# Altium footprint library PCB_Reflow_Plate_PcbLib.PcbLib: 21 footprints (part 1 of 2)
Each footprint in its own frame and in the unit in brackets; x right, y up, seen from the top. Pads: shape width x height; smd on the part's side, far side on the other; paste and mask are expansions set on the pad; w line width, h text height; cw(c..) or ccw(c..) is an arc to the next point about the centre after c.
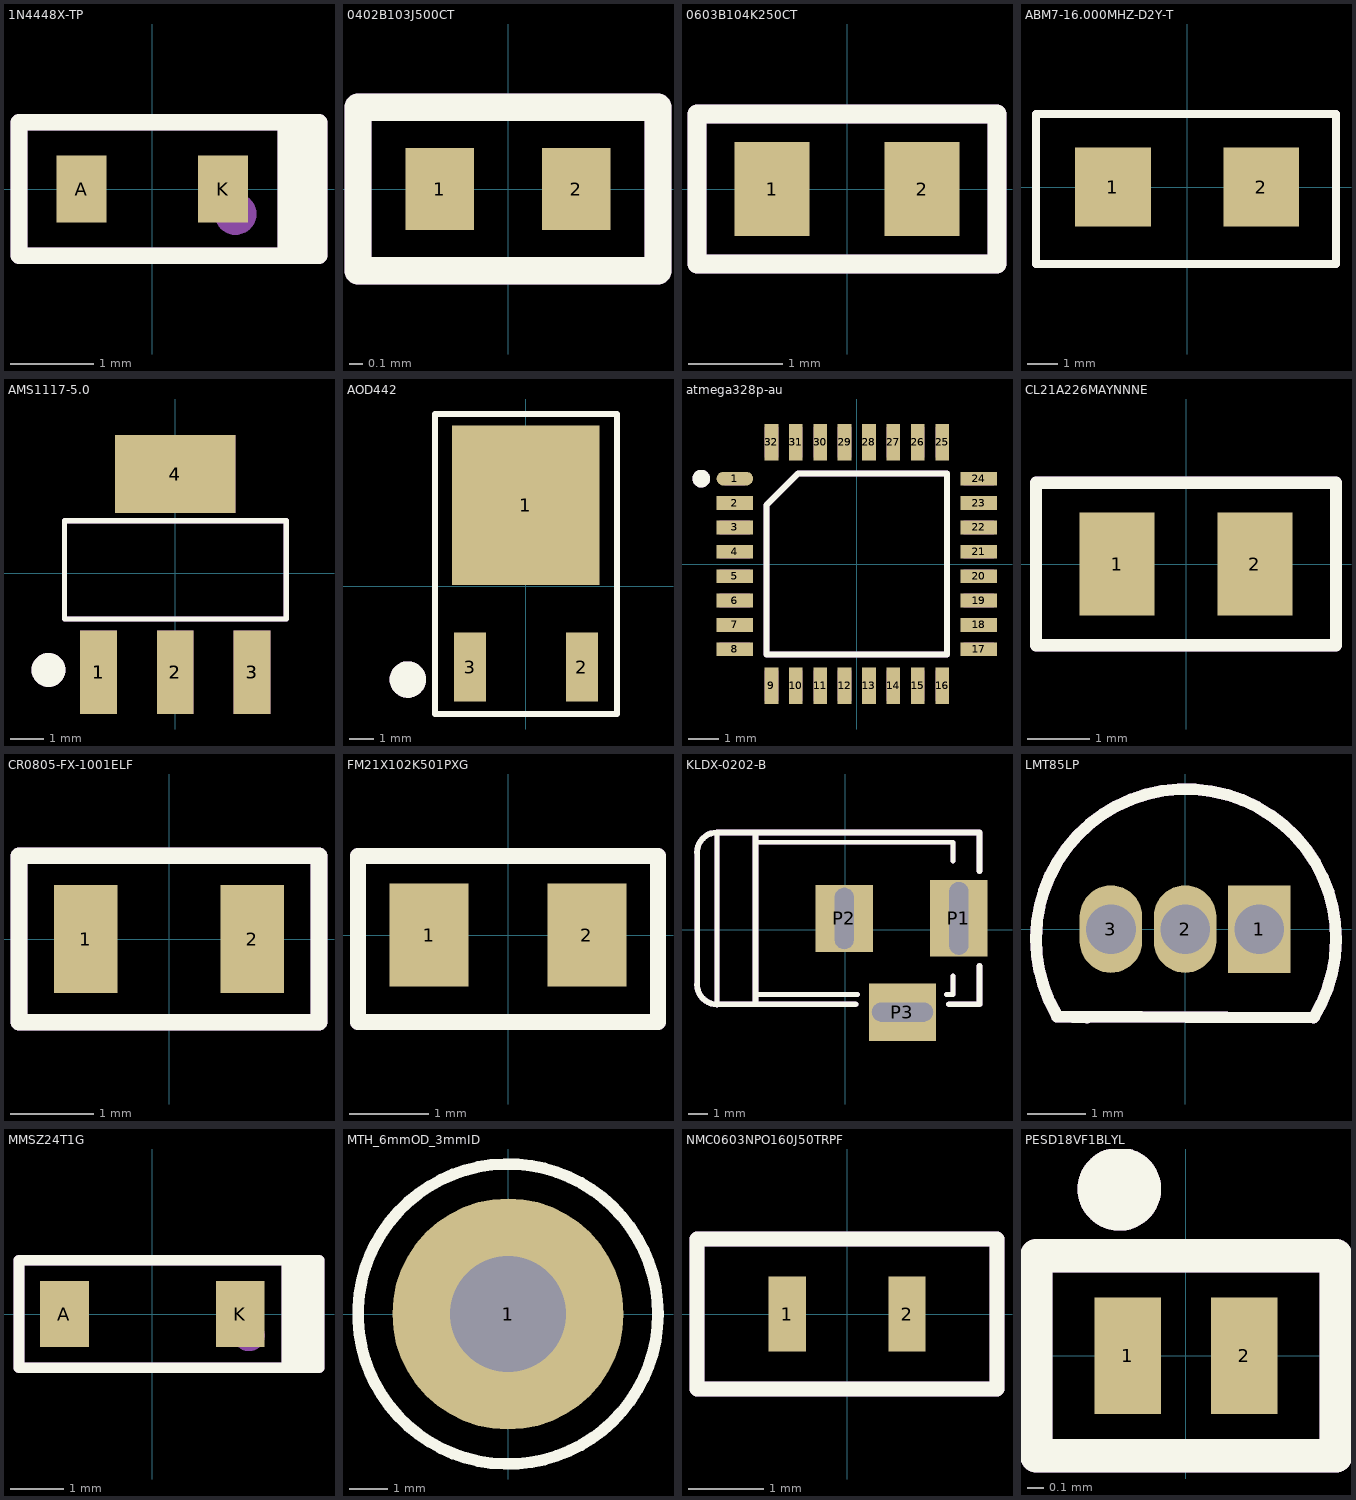
[diagram p0: the footprints below, top view; thin cyan lines are the x and y axes]

## 1N4448X-TP [mm]
pads (2):
  rect 0.6x0.8 smd: A(-0.85,0) K(0.85,0)
Top Overlay:
  rectangle: 1.5,-0.8 2,0.8
  lines w0.2: -1.6,-0.8 -1.6,0.8 2,0.8 2,-0.8 -1.6,-0.8
Top Assembly:
  circle w0.3: c1,-0.3 r0.1
  rectangle: 1.5,-0.8 2,0.8
  lines w0.2: -1.6,-0.8 -1.6,0.8 2,0.8 2,-0.8 -1.6,-0.8
  text "'.Designator'" at -4.817,-0.317 h0.76
3D body "1N4448X-TP.stp": height 0.76, standoff 0.01, extent -1.09,-0.4 1.09,0.4

## 0402B103J500CT [mm]
pads (2):
  rect 0.5x0.6 smd: 1(-0.5,0) 2(0.5,0)
Top Overlay:
  lines w0.2: -1.1,-0.6 -1.1,0.6 1.1,0.6 1.1,-0.6 -1.1,-0.6
Top Assembly:
  lines w0.2: -1.1,-0.6 -1.1,0.6 1.1,0.6 1.1,-0.6 -1.1,-0.6
  text "'.Designator'" at -3.965,-0.292 h0.7
3D body "C1005X7S2A103M050BB.stp": height 0.51, standoff 0.01, extent -0.5,-0.25 0.5,0.25

## 0603B104K250CT [mm]
pads (2):
  rect 0.8x1 smd: 1(-0.8,0) 2(0.8,0)
Top Overlay:
  lines w0.2: -1.6,-0.8 -1.6,0.8 1.6,0.8 1.6,-0.8 -1.6,-0.8
Top Assembly:
  lines w0.2: -1.6,-0.8 -1.6,0.8 1.6,0.8 1.6,-0.8 -1.6,-0.8
  text "'.Designator'" at -3.965,-0.292 h0.7
3D body "MC0603B104K250CT.stp": height 0.87, standoff 0, extent -0.8,-0.4 0.8,0.4

## ABM7-16.000MHZ-D2Y-T [mm]
pads (2):
  rect 2.5x2.6 smd: 1(-2.45,0) 2(2.45,0)
Top Overlay:
  lines w0.254: -4.99,-2.54 4.916,-2.54 4.916,2.413 -4.99,2.413 -4.99,-2.54
Top Assembly:
  lines w0.254: -4.99,-2.54 4.916,-2.54 4.916,2.413 -4.99,2.413 -4.99,-2.54
  text "'.Designator'" at -7.194,-0.529 h1.27
Mechanical 15:
  lines w0.003: 1.741,0.063 1.741,0.064
3D body "XTAL_ABM7_ABR.step": height 1.41, standoff 0.01, extent -3.409,-2.291 3.409,2.291

## AMS1117-5.0 [mm] "1A 70dB@(120Hz) 5mA 1.4V@1A -40?~+125?@(Tj) Fixed 5V~5V Positive 0.003%Vout 1 20V High-current SOT-223-3 Linear Voltage Regulators (LDO) ROHS"
pads (8):
  rect 1.1x2.5 smd: 1(-2.3,-2.97) 2(0,-2.97) 3(2.3,-2.97)
  rect 1.1x2.5 on Mech2: 1(-2.3,-2.97) 2(0,-2.97) 3(2.3,-2.97)
  rect 3.6x2.34 smd: 4(0,2.97)
  rect 3.6x2.34 on Mech2: 4(0,2.97)
Top Overlay:
  circle w0.762: c-3.8,-2.9 r0.127
  lines w0.152: -3.326,-1.371 -3.326,1.571 3.326,1.571 3.326,-1.371 -3.326,-1.371
Top Assembly:
  circle w0.762: c-3.8,-2.9 r0.127
  lines w0.152: -3.326,-1.371 -3.326,1.571 3.326,1.571 3.326,-1.371 -3.326,-1.371
  text "'.Designator'" at -4.317,-0.317 h0.76
3D body "AMS1117-5.0.stp": height 1.8, standoff 0, extent -3.253,-3.5 3.253,3.5

## AOD442 [mm]
pads (3):
  rect 6x6.5 smd: 1(0,3.292)
  rect 1.3x2.8 smd: 2(2.273,-3.292) 3(-2.273,-3.292)
Top Overlay:
  circle w0.762: c-4.8,-3.8 r0.361
  lines w0.254: -3.7,-5.2 3.7,-5.2 ; -3.7,-5.2 -3.7,7 ; -3.7,-5.2 3.7,-5.2 ; -3.7,-5.2 -3.7,7 ; -3.7,7 3.7,7 ; -3.7,7 3.7,7 ; 3.7,-5.2 3.7,7 ; 3.7,-5.2 3.7,7
Top Assembly:
  circle w0.762: c-4.8,-3.8 r0.361
  text "'.Designator'" at -7.194,-0.529 h1.27
3D body "AOD280A60_AOS.step": height 2.45, standoff 0.01, extent -3.404,-2.966 3.404,5.106

## atmega328p-au [mm]
pads (64):
  oval 1.2x0.45 smd: 1(-4,2.8)
  oval 1x0.45 on Mech2: 1(-4,2.8)
  rect 1.2x0.45 smd: 2(-4,2) 3(-4,1.2) 4(-4,0.4) 5(-4,-0.4) 6(-4,-1.2) 7(-4,-2) 8(-4,-2.8) 17(4,-2.8) 18(4,-2) 19(4,-1.2) 20(4,-0.4) 21(4,0.4) 22(4,1.2) 23(4,2) 24(4,2.8)
  rect 1x0.45 on Mech2: 2(-4,2) 3(-4,1.2) 4(-4,0.4) 5(-4,-0.4) 6(-4,-1.2) 7(-4,-2) 8(-4,-2.8) 17(4,-2.8) 18(4,-2) 19(4,-1.2) 20(4,-0.4) 21(4,0.4) 22(4,1.2) 23(4,2) 24(4,2.8)
  rect 0.45x1.2 smd: 9(-2.8,-4) 10(-2,-4) 11(-1.2,-4) 12(-0.4,-4) 13(0.4,-4) 14(1.2,-4) 15(2,-4) 16(2.8,-4) 25(2.8,4) 26(2,4) 27(1.2,4) 28(0.4,4) 29(-0.4,4) 30(-1.2,4) 31(-2,4) 32(-2.8,4)
  rect 0.45x1 on Mech2: 9(-2.8,-4) 10(-2,-4) 11(-1.2,-4) 12(-0.4,-4) 13(0.4,-4) 14(1.2,-4) 15(2,-4) 16(2.8,-4) 25(2.8,4) 26(2,4) 27(1.2,4) 28(0.4,4) 29(-0.4,4) 30(-1.2,4) 31(-2,4) 32(-2.8,4)
Top Overlay:
  circle w0.3: c-5.1,2.8 r0.141
  lines w0.2: -2.965,-2.965 2.965,-2.965 2.965,2.965 -1.93,2.965 -2.965,1.93 -2.965,-2.965
Top Assembly:
  circle w0.3: c-5.1,2.8 r0.141
  lines w0.2: -2.965,-2.965 2.965,-2.965 2.965,2.965 -1.93,2.965 -2.965,1.93 -2.965,-2.965
  text "'.Designator'" at -4.317,-0.317 h0.76
3D body "ATMEGA328P-AU.stp": height 1.2, standoff 0, extent -4.5,-4.5 4.5,4.5

## CL21A226MAYNNNE [mm]
pads (2):
  rect 1.2x1.65 smd: 1(-1.1,0) 2(1.1,0)
Top Overlay:
  lines w0.2: -2.4,-1.3 2.4,-1.3 2.4,1.3 -2.4,1.3 -2.4,-1.3
Top Assembly:
  lines w0.2: -2.4,-1.3 2.4,-1.3 2.4,1.3 -2.4,1.3 -2.4,-1.3
  text "'.Designator'" at -7.194,-0.529 h1.27
3D body "CL21A226MAYNNNE.stp": height 1.45, standoff 0, extent -1,-0.625 1,0.625

## CR0805-FX-1001ELF [mm]
pads (2):
  rect 0.762x1.3 smd: 1(-1,0) 2(1,0)
Top Overlay:
  lines w0.2: -1.8,-1 -1.8,1 1.8,1 1.8,-1 -1.8,-1
Top Assembly:
  lines w0.2: -1.8,-1 -1.8,1 1.8,1 1.8,-1 -1.8,-1
  text "'.Designator'" at -5.755,-0.423 h1.02
3D body "CR0805-FX-1001ELF.stp": height 0.51, standoff 0.01, extent -1,-0.625 1,0.625

## FM21X102K501PXG [mm]
pads (2):
  rect 1x1.3 smd: 1(-1,0) 2(1,0)
Top Overlay:
  lines w0.2: -1.9,-1.1 1.9,-1.1 1.9,1 -1.9,1 -1.9,-1.1
Top Assembly:
  lines w0.2: -1.9,-1.1 1.9,-1.1 1.9,1 -1.9,1 -1.9,-1.1
  text "'.Designator'" at -7.194,-0.529 h1.27
3D body "GRM21AR72E102KW01D.stp": height 1, standoff 0, extent -1,-0.625 1,0.625

## KLDX-0202-B [mm]
pads (3):
  rect 3x4 hole 1 slot 3.8 at 90 deg: P1(5.943,0.602)
  rect 3x3.5 hole 1 slot 3.2 at 90 deg: P2(-0.051,0.602)
  rect 3.5x3 hole 1 slot 3.2 at 0 deg: P3(2.997,-4.3)
Top Overlay:
  lines w0.254: -6.706,-3.894 -6.706,5.098 ; -4.7,-3.386 0.634,-3.386 ; -4.7,4.59 5.638,4.59 5.638,3.599 ; 5.308,-3.386 5.638,-3.386 5.638,-2.395
  lines w0.305: -7.759,-2.848 ccw(c-6.709,-2.848) -6.709,-3.898 ; -7.759,4.052 cw(c-6.709,4.052) -6.709,5.102 ; -7.748,-2.852 -7.748,4.057 ; -6.706,-3.894 -4.7,-3.894 ; -6.706,5.098 -4.7,5.098 ; -4.7,-2.446 -4.7,-3.386 -4.7,-3.894 ; -4.7,-2.344 -4.7,5.098 ; 0.533,-3.894 -4.7,-3.894 ; 5.435,-3.894 7.035,-3.894 7.035,-1.887 ; 7.035,3.091 7.035,5.098 -4.7,5.098
Top Assembly:
  lines w0.254: -6.706,-3.894 -6.706,5.098 ; -4.7,-3.386 0.634,-3.386 ; -4.7,4.59 5.638,4.59 5.638,3.599 ; 5.308,-3.386 5.638,-3.386 5.638,-2.395
  lines w0.305: -7.759,-2.848 ccw(c-6.709,-2.848) -6.709,-3.898 ; -7.759,4.052 cw(c-6.709,4.052) -6.709,5.102 ; -7.748,-2.852 -7.748,4.057 ; -6.706,-3.894 -4.7,-3.894 ; -6.706,5.098 -4.7,5.098 ; -4.7,-2.446 -4.7,-3.386 -4.7,-3.894 ; -4.7,-2.344 -4.7,5.098 ; 0.533,-3.894 -4.7,-3.894 ; 5.435,-3.894 7.035,-3.894 7.035,-1.887 ; 7.035,3.091 7.035,5.098 -4.7,5.098
  text "'.Designator'" at -7.194,-0.529 h1.27
Mechanical 15:
  lines w0.003: 0.67,-0.198 0.67,-0.198
3D body "DC Power Jack 5.5mm x 2.1mm.STEP": height 10.67, standoff -3.71, extent -7.62,-4.885 7,4.885

## LMT85LP [mm]
pads (3):
  rect 1.07x1.5 hole 0.85 mask+0.003: 1(1.27,0)
  oval 1.07x1.5 hole 0.85 mask+0.003: 2(0,0) 3(-1.27,0)
Top Overlay:
  lines w0.2: -2.19,-1.49 cw(c0.016,-0.171) 2.21,-1.51 ; -1.68,-1.52 -2.2,-1.5 2.2,-1.52
Top Assembly:
  lines w0.2: -2.19,-1.49 cw(c0.016,-0.171) 2.21,-1.51 ; -1.68,-1.52 -2.2,-1.5 2.2,-1.52
  text "'.Designator'" at -4.317,-0.317 h0.76
3D body "LMT85LP.stp": height 5.44, standoff -1.7, extent -2.413,-1.243 2.413,2.5

## MMSZ24T1G [mm]
pads (2):
  rect 0.91x1.22 smd: A(-1.635,0) K(1.635,0)
Top Overlay:
  rectangle: 2.4,-1 3.1,1
  lines w0.2: -2.48,-1 -2.48,1 3.1,1 3.1,-1 -2.48,-1
Top Assembly:
  circle w0.3: c1.8,-0.4 r0.141
  rectangle: 2.4,-1 3.1,1
  lines w0.2: -2.48,-1 -2.48,1 3.1,1 3.1,-1 -2.48,-1
  text "'.Designator'" at -6.155,-0.423 h1.02
3D body "SOD-123_ONS.step": height 1.35, standoff 0, extent -1.93,-0.902 1.93,0.902

## MTH_6mmOD_3mmID [mm] "mounting hole 6mm outer 3mm inner"
pads (1):
  round 6 hole 3 mask+0.178: 1(0,0)
Top Overlay:
  circle w0.3: c0,0 r3.89

## NMC0603NPO160J50TRPF [mm]
pads (2):
  rect 0.5x1 smd: 1(-0.8,0) 2(0.8,0)
Top Overlay:
  lines w0.2: -2,-1 2,-1 2,1 -2,1 -2,-1
Top Assembly:
  lines w0.2: -2,-1 2,-1 2,1 -2,1 -2,-1
  text "'.Designator'" at -5.755,-0.423 h1.02
3D body "MC0603B104K250CT.stp": height 0.87, standoff 0, extent -0.8,-0.4 0.8,0.4

## PESD18VF1BLYL [mm]
pads (2):
  rect 0.4x0.7 smd: 1(-0.35,0) 2(0.35,0)
Top Overlay:
  circle w0.3: c-0.4,1 r0.1
  lines w0.2: -0.9,-0.6 -0.9,0.6 0.9,0.6 0.9,-0.6 -0.9,-0.6
Top Assembly:
  circle w0.3: c-0.4,1 r0.1
  lines w0.2: -0.9,-0.6 -0.9,0.6 0.9,0.6 0.9,-0.6 -0.9,-0.6
  text "'.Designator'" at -7.194,-1.729 h1.27
3D body "PESD18VF1BLYL.stp": height 0.48, standoff 0.01, extent -0.5,-0.3 0.5,0.3